# EAGLE library part PRTR5V0U8S (library Philips)
PRTR5V0U8S Integrated octal low-capacity ESD protection OBSOLETE - DO NOT USE IN NEW DESIGNS aka transient voltage suppressor Datasheet: http://datasheet.octopart.com/PRTR5V0U8S%2C118-NXP-datasheet-8332057.pdf
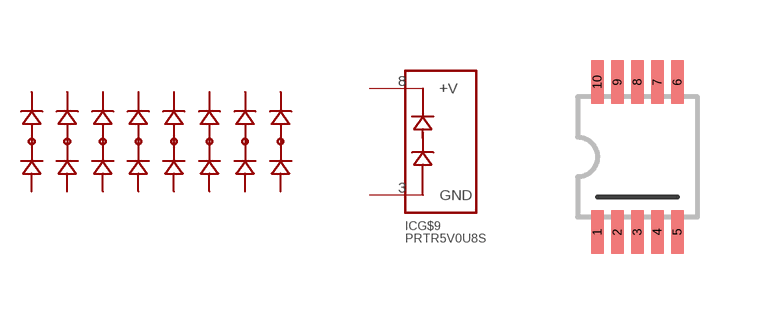
[diagram p0: symbol with the pads of TSSOP-10; footprint TSSOP-10]

Designator prefix IC; gates G$1=TVS-DIODE G$2=TVS-DIODE G$3=TVS-DIODE G$4=TVS-DIODE G$5=TVS-DIODE G$6=TVS-DIODE G$7=TVS-DIODE G$8=TVS-DIODE G$9=PRTR5V0U8S_PWR

## PRTR5V0U8S (PARTNO: PRTR5V0U8S,118)  [TSSOP-10]
1  G$1:SIGNAL  pas
2  G$2:SIGNAL  pas
3  G$9:GND  pwr
4  G$3:SIGNAL  pas
5  G$4:SIGNAL  pas
6  G$5:SIGNAL  pas
7  G$6:SIGNAL  pas
8  G$9:+V  pwr
9  G$7:SIGNAL  pas
10  G$8:SIGNAL  pas

## Footprint TSSOP-10 (pad centres in mm)
Thin-Shrink Small Outline Package (TSSOP), 10 leads Reference: http://www.ricoh.com/LSI/product_power/pkg/10pinssop.pdf
smd 0.317 x 1.1: 1 -1,-1.875; 2 -0.5,-1.875; 3 0,-1.875; 4 0.5,-1.875; 5 1,-1.875; 6 1,1.875; 7 0.5,1.875; 8 0,1.875; 9 -0.5,1.875; 10 -1,1.875